# EAGLE library part 09565627813 (library 09565627813)
D-Sub High Density Connectors DSUB HD MA RA 78P 78P 4-40 SCREW LOCK Source: Datasheet <https://b2b.harting.com/files/download/PRD/PDF_TS/0956562X813_100510360DRW001D.pdf>
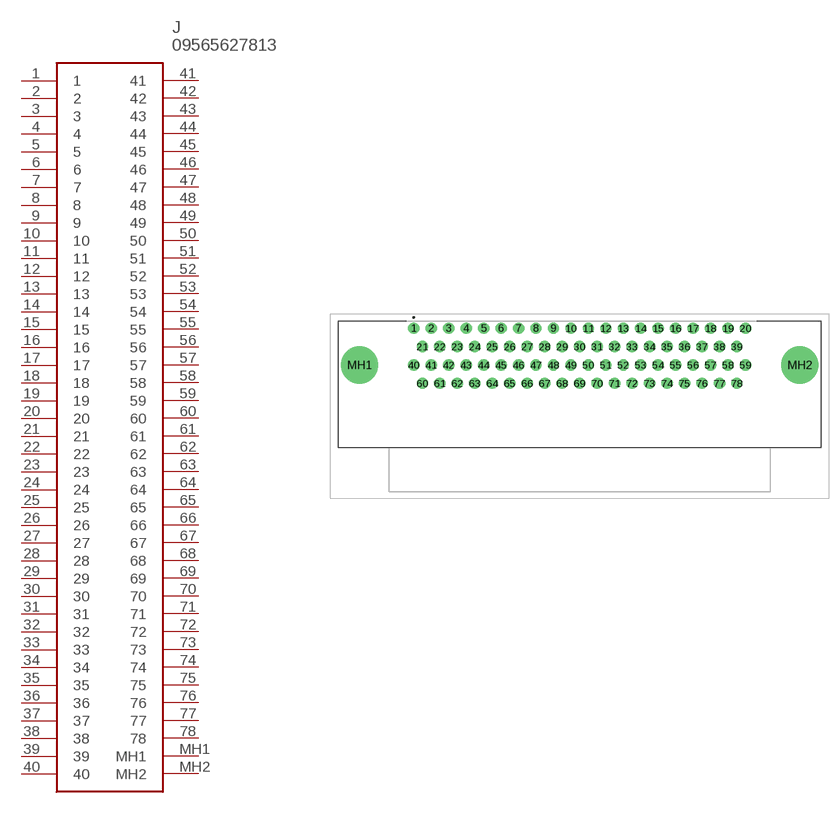
[diagram p0: symbol with the pads of 09565627813; footprint 09565627813]

Designator prefix J

## 09565627813 (Description: D-Sub High Density Connectors DSUB HD MA RA 78P 78P 4-40 SCREW LOCK; Height: 15.37mm; Manufacturer_Name: HARTING; Manufacturer_Part_Number: 09565627813; Mouser_Part_Number: 617-09565627813; Mouser_Price-Stock: https://www.mouser.com/Search/Refine.aspx?Keyword=617-09565627813)  [09565627813]
1  1
2  2
3  3
4  4
5  5
6  6
7  7
8  8
9  9
10  10
11  11
12  12
13  13
14  14
15  15
16  16
17  17
18  18
19  19
20  20
21  21
22  22
23  23
24  24
25  25
26  26
27  27
28  28
29  29
30  30
31  31
32  32
33  33
34  34
35  35
36  36
37  37
38  38
39  39
40  40
41  41
42  42
43  43
44  44
45  45
46  46
47  47
48  48
49  49
50  50
51  51
52  52
53  53
54  54
55  55
56  56
57  57
58  58
59  59
60  60
61  61
62  62
63  63
64  64
65  65
66  66
67  67
68  68
69  69
70  70
71  71
72  72
73  73
74  74
75  75
76  76
77  77
78  78
MH1  MH1
MH2  MH2

## Footprint 09565627813 (pad centres in mm)
09565627813-3
drill 1.05 pad 1.575: 1 0,0; 2 2.42,0; 3 4.84,0; 4 7.26,0; 5 9.68,0; 6 12.1,0; 7 14.52,0; 8 16.94,0; 9 19.36,0; 10 21.78,0; 11 24.2,0; 12 26.62,0; 13 29.04,0; 14 31.46,0; 15 33.88,0; 16 36.3,0; 17 38.72,0; 18 41.14,0; 19 43.56,0; 20 45.98,0; 21 1.21,-2.54; 22 3.63,-2.54; 23 6.05,-2.54; 24 8.47,-2.54; 25 10.89,-2.54; 26 13.31,-2.54; 27 15.73,-2.54; 28 18.15,-2.54; 29 20.57,-2.54; 30 22.99,-2.54; 31 25.41,-2.54; 32 27.83,-2.54; 33 30.25,-2.54; 34 32.67,-2.54; 35 35.09,-2.54; 36 37.51,-2.54; 37 39.93,-2.54; 38 42.35,-2.54; 39 44.77,-2.54; 40 0,-5.08; 41 2.42,-5.08; 42 4.84,-5.08; 43 7.26,-5.08; 44 9.68,-5.08; 45 12.1,-5.08; 46 14.52,-5.08; 47 16.94,-5.08; 48 19.36,-5.08; 49 21.78,-5.08; 50 24.2,-5.08; 51 26.62,-5.08; 52 29.04,-5.08; 53 31.46,-5.08; 54 33.88,-5.08; 55 36.3,-5.08; 56 38.72,-5.08; 57 41.14,-5.08; 58 43.56,-5.08; 59 45.98,-5.08; 60 1.21,-7.62; 61 3.63,-7.62; 62 6.05,-7.62; 63 8.47,-7.62; 64 10.89,-7.62; 65 13.31,-7.62; 66 15.73,-7.62; 67 18.15,-7.62; 68 20.57,-7.62; 69 22.99,-7.62; 70 25.41,-7.62; 71 27.83,-7.62; 72 30.25,-7.62; 73 32.67,-7.62; 74 35.09,-7.62; 75 37.51,-7.62; 76 39.93,-7.62; 77 42.35,-7.62; 78 44.77,-7.62
drill 3.45 pad 5.175: MH1 -7.51,-5.08; MH2 53.49,-5.08